# Altium integrated library Rosenberger Mini-SMP.IntLib: 8 symbols
Pins are listed as number, name and electrical type; pins without a type are passive.

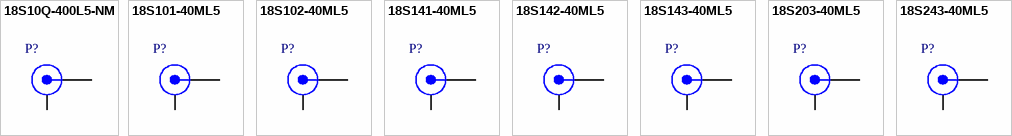
[diagram p0: symbols 18S10Q-400L5-NM to 18S243-40ML5]

## 18S10Q-400L5-NM
designator P?
Mini-SMP Straight Plug, Full Detent, Up to 65 GHz, -55 to 155 degC; PartNumber: 18S10Q-400L5-NM; Design Note: Footprint in library is a generic example - only application specific footprint delivers High Performance; DatasheetVersion: 300; PackageVersion: 300; PackageReference: 18S10Q-400L5-NM; PackageDescription: Mini-SMP Straight Plug, 4 x 4 x 4.07 mm; Detention force: full detent; Mounting Technology: Through Hole; ComponentLink1Description: Manufacturer URL; ComponentLink1URL: http://www.rosenberger.de; ComponentLink2Description: Datasheet; ComponentLink2URL: http://rosenberger.de/ok/images/documents/db/18S10Q-400L5-NM.pdf; ComponentLink3Description: Package Specification; ComponentLink3URL: http://rosenberger.de/ok/images/documents/db/18S10Q-400L5-NM.pdf; ComponentLink4Description: Series Overview / Design Note; ComponentLink4URL: http://rosenberger.de/ok/images/documents/spez/18.pdf; ComponentLink5Description: Webshop / RFQ; ComponentLink5URL: http://www.rosenberger.com/en/contact/sales/
footprint ROS-18S10Q-400L5-NM_V (Mini-SMP Straight Plug, 4x4x4.07mm, Rosenberger Recommended)
pins: 1, MH

## 18S101-40ML5
designator P?
Mini-SMP Straight Plug, Full Detent, Up to 65 GHz, -55 to 155 degC; PartNumber: 18S101-40ML5; Design Note: Footprint in library is a generic example - only application specific footprint delivers High Performance; DatasheetVersion: b00; PackageVersion: b00; PackageReference: 18S101-40ML5; PackageDescription: Mini-SMP Straight Plug, 4.474 x 4 x 3.4 mm; Detention force: full detent; Mounting Technology: Surface Mount; ComponentLink1Description: Manufacturer URL; ComponentLink1URL: http://www.rosenberger.de; ComponentLink2Description: Datasheet; ComponentLink2URL: http://rosenberger.de/ok/images/documents/db/18S101-40ML5.pdf; ComponentLink3Description: Package Specification; ComponentLink3URL: http://rosenberger.de/ok/images/documents/db/18S101-40ML5.pdf; ComponentLink4Description: Series Overview / Design Note; ComponentLink4URL: http://rosenberger.de/ok/images/documents/spez/18.pdf; ComponentLink5Description: Webshop / RFQ; ComponentLink5URL: http://www.rosenberger.com/en/contact/sales/
footprint ROS-18S101-40ML5_V (Mini-SMP Straight Plug, 4.474x4x3.4mm, Rosenberger Recommended)
pins: 1, MP

## 18S102-40ML5
designator P?
Mini-SMP Straight Plug, Full Detent, Up to 65 GHz, -55 to 155 degC; PartNumber: 18S102-40ML5; Design Note: Footprint in library is a generic example - only application specific footprint delivers High Performance; DatasheetVersion: h00; PackageVersion: h00; PackageReference: 18S102-40ML5; PackageDescription: Mini-SMP Straight Plug, 4.75 x 4.00 x 4.07 mm; Detention force: full detent; Mounting Technology: Surface Mount; ComponentLink1Description: Manufacturer URL; ComponentLink1URL: http://www.rosenberger.de; ComponentLink2Description: Datasheet; ComponentLink2URL: http://rosenberger.de/ok/images/documents/db/18S102-40ML5.pdf; ComponentLink3Description: Package Specification; ComponentLink3URL: http://rosenberger.de/ok/images/documents/db/18S102-40ML5.pdf; ComponentLink4Description: Series Overview / Design Note; ComponentLink4URL: http://rosenberger.de/ok/images/documents/spez/18.pdf; ComponentLink5Description: Webshop / RFQ; ComponentLink5URL: http://www.rosenberger.com/en/contact/sales/
footprint ROS-18S102-40ML5_V (Mini-SMP Straight Plug, 4.75x4.00x4.07mm, Rosenberger Recommended)
pins: 1, MP

## 18S141-40ML5
designator P?
Mini-SMP Straight Plug, Smooth Bore, Up to 60 GHz, -55 to 155 degC; PartNumber: 18S141-40ML5; Design Note: Footprint in library is a generic example - only application specific footprint delivers High Performance; DatasheetVersion: b00; PackageVersion: b00; PackageReference: 18S141-40ML5; PackageDescription: Mini-SMP Straight Plug, 4.474 x 4.00 x 3.40 mm; Detention force: smooth bore; Mounting Technology: Surface Mount; ComponentLink1Description: Manufacturer URL; ComponentLink1URL: http://www.rosenberger.de; ComponentLink2Description: Datasheet; ComponentLink2URL: http://rosenberger.de/ok/images/documents/db/18S141-40ML5.pdf; ComponentLink3Description: Package Specification; ComponentLink3URL: http://rosenberger.de/ok/images/documents/db/18S141-40ML5.pdf; ComponentLink4Description: Series Overview / Design Note; ComponentLink4URL: http://rosenberger.de/ok/images/documents/spez/18.pdf; ComponentLink5Description: Webshop / RFQ; ComponentLink5URL: http://www.rosenberger.com/en/contact/sales/
footprint ROS-18S141-40ML5_V (Mini-SMP Straight Plug, 4.474x4.00x3.40mm, Rosenberger Recommended)
pins: 1, MP

## 18S142-40ML5
designator P?
Mini-SMP Straight Plug, Smooth Bore, Up to 65 GHz, -55 to 155 degC; PartNumber: 18S142-40ML5; Design Note: Footprint in library is a generic example - only application specific footprint delivers High Performance; DatasheetVersion: c00; PackageVersion: c00; PackageReference: 18S142-40ML5; PackageDescription: Mini-SMP Straight Plug, 4.00 x 4.00 x 4.07 mm; Detention force: smooth bore; Mounting Technology: Surface Mount; ComponentLink1Description: Manufacturer URL; ComponentLink1URL: http://www.rosenberger.de; ComponentLink2Description: Datasheet; ComponentLink2URL: http://rosenberger.de/ok/images/documents/db/18S142-40ML5.pdf; ComponentLink3Description: Package Specification; ComponentLink3URL: http://rosenberger.de/ok/images/documents/db/18S142-40ML5.pdf; ComponentLink4Description: Series Overview / Design Note; ComponentLink4URL: http://rosenberger.de/ok/images/documents/spez/18.pdf; ComponentLink5Description: Webshop / RFQ; ComponentLink5URL: http://www.rosenberger.com/en/contact/sales/
footprint ROS-18S142-40ML5_V (Mini-SMP Straight Plug, 4.00x4.00x4.07 mm, Rosenberger Recommended)
pins: 1, MP

## 18S143-40ML5
designator P?
Mini-SMP Straight Plug, Smooth Bore, Up to 26.5 GHz, -55 to 155 degC; PartNumber: 18S143-40ML5; Design Note: Footprint in library is a generic example - only application specific footprint delivers High Performance; DatasheetVersion: a00; PackageVersion: a00; PackageReference: 18S143-40ML5; PackageDescription: Mini-SMP Straight Plug, 4.75 x 4 x 4.47 mm; Detention force: smooth bore; Mounting Technology: Surface Mount; ComponentLink1Description: Manufacturer URL; ComponentLink1URL: http://www.rosenberger.de; ComponentLink2Description: Datasheet; ComponentLink2URL: http://rosenberger.de/ok/images/documents/db/18S143-40ML5.pdf; ComponentLink3Description: Package Specification; ComponentLink3URL: http://rosenberger.de/ok/images/documents/db/18S143-40ML5.pdf; ComponentLink4Description: Series Overview / Design Note; ComponentLink4URL: http://rosenberger.de/ok/images/documents/spez/18.pdf; ComponentLink5Description: Webshop / RFQ; ComponentLink5URL: http://www.rosenberger.com/en/contact/sales/
footprint ROS-18S143-40ML5_V (Mini-SMP Straight Plug, 4.75x4x4.47mm, Rosenberger Recommended)
pins: 1, MP

## 18S203-40ML5
designator P?
Mini-SMP Right Angle Plug, Edge Mount, Full Detent, Up to 65 GHz, -55 to 155 degC; PartNumber: 18S203-40ML5; Design Note 1: Footprint in library is a generic example - only application specific footprint delivers High Performance; Desgin Note 2: For more information about DRC setting, please look at following webpage, http://techdocs.altium.com/display/SCRT/Design+Rule+for+Edge-Mount+Connectors; DatasheetVersion: a00; PackageVersion: a00; PackageReference: 18S203-40ML5; PackageDescription: Mini-SMP Right Angle Plug, Edge Mount, 3.997 x 6.85 x 1.75 mm; Detention force: full detent; Mounting Technology: Surface Mount; ComponentLink1Description: Manufacturer URL; ComponentLink1URL: http://www.rosenberger.de; ComponentLink2Description: Datasheet; ComponentLink2URL: http://rosenberger.de/ok/images/documents/db/18S203-40ML5.pdf; ComponentLink3Description: Package Specification; ComponentLink3URL: http://rosenberger.de/ok/images/documents/db/18S203-40ML5.pdf; ComponentLink4Description: Series Overview / Design Note; ComponentLink4URL: http://rosenberger.de/ok/images/documents/spez/18.pdf; ComponentLink5Description: Webshop / RFQ; ComponentLink5URL: http://www.rosenberger.com/en/contact/sales/
footprint ROS-18S203-40ML5_V (Mini-SMP Right Angle Plug, Edge Mount, 3.997x6.85x1.75mm, Rosenberger Recommended)
pins: 1, MP

## 18S243-40ML5
designator P?
Mini-SMP Right Angle Plug, Edge Mount, Smooth Bore, Up to 65 GHz, -55 to 155 degC; PartNumber: 18S243-40ML5; Design Note 1: Footprint in library is a generic example - only application specific footprint delivers High Performance; Desgin Note 2: For more information about DRC setting, please look at following webpage, http://techdocs.altium.com/display/SCRT/Design+Rule+for+Edge-Mount+Connectors; DatasheetVersion: b00; PackageVersion: b00; PackageReference: 18S243-40ML5; PackageDescription: Mini-SMP Right Angle Plug, Edge Mount, 3.997 x 6.85 x 1.75 mm; Detention force: smooth bore; Mounting Technology: Surface Mount; ComponentLink1Description: Manufacturer URL; ComponentLink1URL: http://www.rosenberger.de; ComponentLink2Description: Datasheet; ComponentLink2URL: http://rosenberger.de/ok/images/documents/db/18S243-40ML5.pdf; ComponentLink3Description: Package Specification; ComponentLink3URL: http://rosenberger.de/ok/images/documents/db/18S243-40ML5.pdf; ComponentLink4Description: Series Overview / Design Note; ComponentLink4URL: http://rosenberger.de/ok/images/documents/spez/18.pdf; ComponentLink5Description: Webshop / RFQ; ComponentLink5URL: http://www.rosenberger.com/en/contact/sales/
footprint ROS-18S243-40ML5_V (Mini-SMP Right Angle Plug, Edge Mount, 3.997x6.85x1.75mm, Rosenberger Recommended)
pins: 1, MP